# Altium footprint library PCB2.PCBLIB: 30 footprints (part 1 of 2)
Each footprint in its own frame and in the unit in brackets; x right, y up, seen from the top. Pads: shape width x height; smd on the part's side, far side on the other; paste and mask are expansions set on the pad; w line width, h text height; cw(c..) or ccw(c..) is an arc to the next point about the centre after c.
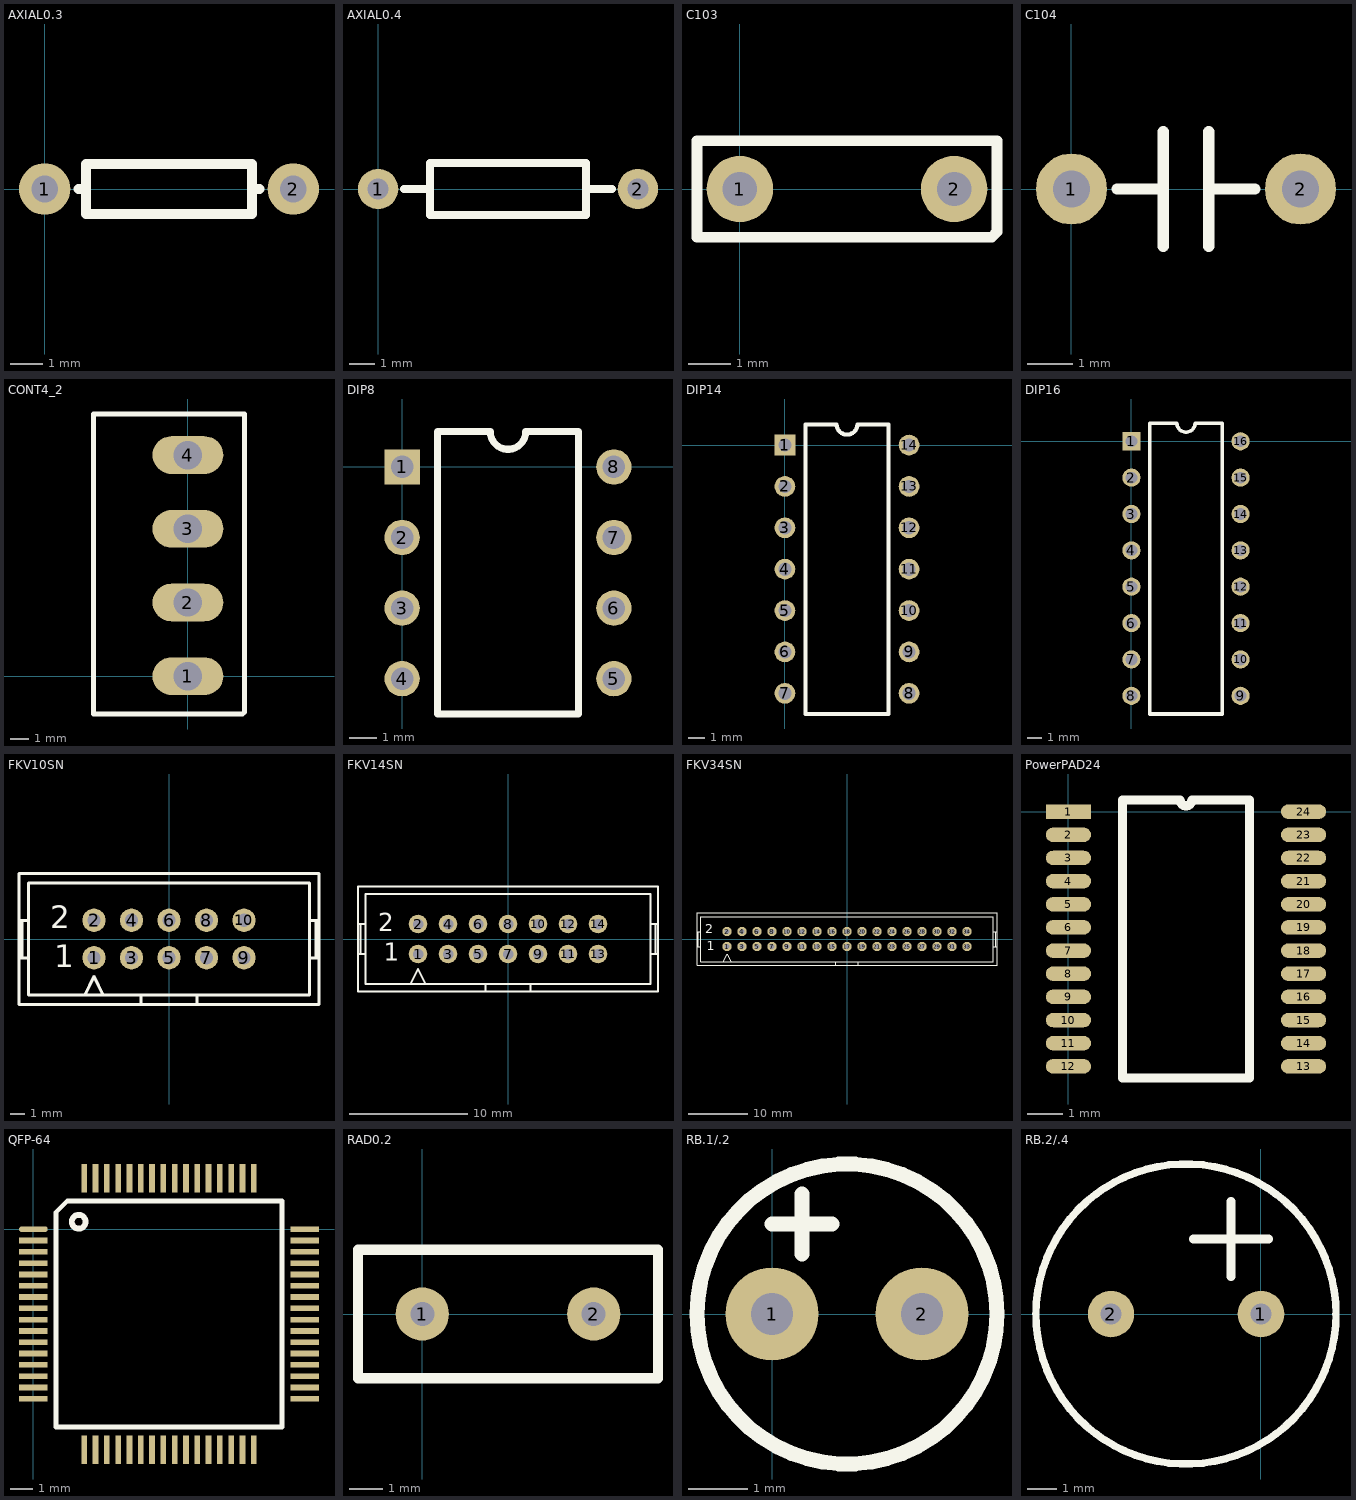
[diagram p0: the footprints below, top view; thin cyan lines are the x and y axes]

## AXIAL0.3 [mil]
pads (2):
  round 62 hole 32: 1(0,0) 2(300,0)
TopOverlay:
  lines w12: 41,0 50,0 ; 259,0 250,0 ; 250,0 250,30 50,30 50,-30 250,-30 250,0

## AXIAL0.4 [mil]
pads (2):
  round 62 hole 32: 1(0,0) 2(400,0)
TopOverlay:
  lines w12: 40,0 80,0 ; 320,0 360,0 ; 80,-40 320,-40 320,40 80,40 80,-40

## C103 [mil]
pads (2):
  round 62 hole 32: 1(0,0) 2(200,0)
TopOverlay:
  lines w10: -40,-45 -40,0 -40,45 240,45 240,-40 235,-45 -40,-45

## C104 [mil]
pads (2):
  round 62 hole 32: 1(0,0) 2(200,0)
TopOverlay:
  lines w10: 40,0 80,0 ; 80,-50 80,50 ; 120,-50 120,50 ; 120,0 160,0

## CONT4_2 [mil]
pads (4):
  oval 150x80 hole 60: 1(0.45,-0.14) 2(0.45,155.86) 3(0.45,311.86) 4(0.45,467.86)
TopOverlay:
  lines w10: -199.55,544.86 -199.55,554.86 ; 120.45,544.86 120.45,554.86 ; -199.55,554.86 120.45,554.86 ; -199.55,554.86 -199.55,525.86 -199.55,-0.14 -199.55,-80.14 116.45,-80.14 120.45,-76.14 120.45,-1.14 120.45,473.86 120.45,554.86

## DIP8 [mil]
pads (8):
  rect 50x50 hole 32: 1(0,0)
  round 50 hole 32: 2(0,-100) 3(0,-200) 4(0,-300) 5(300,-300) 6(300,-200) 7(300,-100) 8(300,0)
TopOverlay:
  lines w10: 50,-350 250,-350 250,50 175,50 cw(c150,50) 125,50 50,50 50,-350

## DIP14 [mil]
pads (14):
  rect 50x50 hole 32: 1(0,0)
  round 50 hole 32: 2(0,-100) 3(0,-200) 4(0,-300) 5(0,-400) 6(0,-500) 7(0,-600) 8(300,-600) 9(300,-500) 10(300,-400) 11(300,-300) 12(300,-200) 13(300,-100) 14(300,0)
TopOverlay:
  lines w10: 50,-650 250,-650 250,50 175,50 cw(c150,50) 125,50 50,50 50,-650

## DIP16 [mil]
pads (16):
  rect 50x50 hole 32: 1(0,0)
  round 50 hole 32: 2(0,-100) 3(0,-200) 4(0,-300) 5(0,-400) 6(0,-500) 7(0,-600) 8(0,-700) 9(300,-700) 10(300,-600) 11(300,-500) 12(300,-400) 13(300,-300) 14(300,-200) 15(300,-100) 16(300,0)
TopOverlay:
  lines w10: 50,-750 50,50 125,50 ccw(c150,50) 175,50 250,50 250,-750 50,-750

## FKV10SN [mil]
pads (10):
  round 62 hole 35: 1(-200,-50) 2(-200,50) 3(-100,-50) 4(-100,50) 5(0,-50) 6(0,50) 7(100,-50) 8(100,50) 9(200,-50) 10(200,50)
TopOverlay:
  lines w8: -400,-50 -375,-50 ; -400,50 -375,50 ; -391.67,-50 -391.67,50 ; -225,-150 -200,-100 -175,-150 ; -75,-175 -75,-150 ; 75,-175 75,-150 ; 375,-50 400,-50 ; 375,50 400,50 ; 391.67,-50 391.67,50 ; -75,-150 75,-150 ; -75,-150 -375,-150 -375,150 375,150 375,-150 75,-150 ; -400,-175 400,-175 400,175 -400,175 -400,-175
  text "1" at -306,-76 h60
  text "2" at -317,29 h60

## FKV14SN [mil]
pads (14):
  round 62 hole 35: 1(-300,-50) 2(-300,50) 3(-200,-50) 4(-200,50) 5(-100,-50) 6(-100,50) 7(0,-50) 8(0,50) 9(100,-50) 10(100,50) 11(200,-50) 12(200,50) 13(300,-50) 14(300,50)
TopOverlay:
  lines w8: -500,-50 -475,-50 ; -500,50 -475,50 ; -491.67,-50 -491.67,50 ; -325,-150 -300,-100 -275,-150 ; -75,-175 -75,-150 ; 75,-175 75,-150 ; 475,-50 500,-50 ; 475,50 500,50 ; 491.67,-50 491.67,50 ; -75,-150 75,-150 ; -75,-150 -475,-150 -475,150 475,150 475,-150 75,-150 ; -500,-175 500,-175 500,175 -500,175 -500,-175
  text "2" at -432,26 h60
  text "1" at -415,-73 h60

## FKV34SN [mil]
pads (34):
  round 62 hole 35: 1(-800,-50) 2(-800,50) 3(-700,-50) 4(-700,50) 5(-600,-50) 6(-600,50) 7(-500,-50) 8(-500,50) 9(-400,-50) 10(-400,50) 11(-300,-50) 12(-300,50) 13(-200,-50) 14(-200,50) 15(-100,-50) 16(-100,50) 17(0,-50) 18(0,50) 19(100,-50) 20(100,50) 21(200,-50) 22(200,50) 23(300,-50) 24(300,50) 25(400,-50) 26(400,50) 27(500,-50) 28(500,50) 29(600,-50) 30(600,50) 31(700,-50) 32(700,50) 33(800,-50) 34(800,50)
TopOverlay:
  lines w8: -1000,-50 -975,-50 ; -1000,50 -975,50 ; -991.67,-50 -991.67,50 ; -825,-150 -800,-100 -775,-150 ; -75,-175 -75,-150 ; 75,-175 75,-150 ; 975,-50 1000,-50 ; 975,50 1000,50 ; 991.67,-50 991.67,50 ; -75,-150 75,-150 ; -75,-150 -975,-150 -975,150 975,150 975,-150 75,-150 ; -1000,-175 1000,-175 1000,175 -1000,175 -1000,-175
  text "1" at -934,-74 h60
  text "2" at -945,37 h60

## PowerPAD24 [mil]
pads (24):
  rect 50x16 smd: 1(0,0)
  oval 50x16 smd: 2(0,-25.6) 3(0,-51.2) 4(0,-76.8) 5(0,-102.4) 6(0,-128) 7(0,-153.6) 8(0,-179.2) 9(0,-204.8) 10(0,-230.4) 11(0,-256) 12(0,-281.6) 13(260,-281.6) 14(260,-256) 15(260,-230.4) 16(260,-204.8) 17(260,-179.2) 18(260,-153.6) 19(260,-128) 20(260,-102.4) 21(260,-76.8) 22(260,-51.2) 23(260,-25.6) 24(260,0)
TopOverlay:
  lines w10: 60,-294.4 60,12.8 123.6,12.8 ccw(c130,12.8) 136.4,12.8 200,12.8 200,-294.4 60,-294.4

## QFP-64 [mil]
pads (64):
  oval 50x10 smd: 1(0,0)
  rect 50x10 smd: 2(0,-19.69) 3(0,-39.37) 4(0,-59.06) 5(0,-78.74) 6(0,-98.43) 7(0,-118.11) 8(0,-137.8) 9(0,-157.48) 10(0,-177.17) 11(0,-196.85) 12(0,-216.54) 13(0,-236.22) 14(0,-255.91) 15(0,-275.59) 16(0,-295.28) 33(472.44,-295.28) 34(472.44,-275.59) 35(472.44,-255.91) 36(472.44,-236.22) 37(472.44,-216.54) 38(472.44,-196.85) 39(472.44,-177.17) 40(472.44,-157.48) 41(472.44,-137.8) 42(472.44,-118.11) 43(472.44,-98.43) 44(472.44,-78.74) 45(472.44,-59.06) 46(472.44,-39.37) 47(472.44,-19.69) 48(472.44,0)
  rect 10x50 smd: 17(88.58,-383.86) 18(108.27,-383.86) 19(127.95,-383.86) 20(147.64,-383.86) 21(167.32,-383.86) 22(187.01,-383.86) 23(206.69,-383.86) 24(226.38,-383.86) 25(246.06,-383.86) 26(265.75,-383.86) 27(285.43,-383.86) 28(305.12,-383.86) 29(324.8,-383.86) 30(344.49,-383.86) 31(364.17,-383.86) 32(383.86,-383.86) 49(383.86,88.58) 50(364.17,88.58) 51(344.49,88.58) 52(324.8,88.58) 53(305.12,88.58) 54(285.43,88.58) 55(265.75,88.58) 56(246.06,88.58) 57(226.38,88.58) 58(206.69,88.58) 59(187.01,88.58) 60(167.32,88.58) 61(147.64,88.58) 62(127.95,88.58) 63(108.27,88.58) 64(88.58,88.58)
TopOverlay:
  circle w10: c78.96,13 r12.04
  lines w8: 39.37,-344.49 39.37,29.53 59.05,49.21 433.07,49.21 433.07,-344.49 39.37,-344.49

## RAD0.2 [mil]
pads (2):
  round 62 hole 28: 1(0,0) 2(200,0)
TopOverlay:
  lines w12: -75,-75 275,-75 275,75 -75,75 -75,-75

## RB.1/.2 [mil]
pads (2):
  round 62 hole 28: 1(0,0) 2(100,0)
TopOverlay:
  circle w10: c50,0 r100
  lines w10: 0,60 40,60 ; 20,40 20,80

## RB.2/.4 [mil]
pads (2):
  round 62 hole 28: 1(0,0) 2(-200,0)
TopOverlay:
  circle w10: c-100,0 r200
  lines w12: -90,100 10,100 ; -40,50 -40,150